# Altium schematic symbol library LSM303DLHC.SchLib: 1 symbol
Pins are listed as number, name and electrical type; pins without a type are passive.

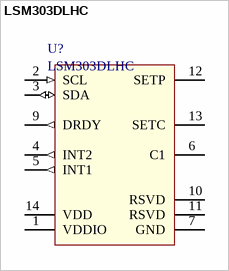
[diagram p0: symbol LSM303DLHC]

## LSM303DLHC
designator U?
Ultra compact high performance e-compass: 3D accelerometer and 3D magnetometer module; value: LSM303DLHC
pins: 1 VDDIO (power), 2 SCL (in), 3 SDA (io), 4 INT2 (out), 5 INT1 (out), 6 C1, 7 GND (power), 9 DRDY (out), 10 RSVD, 11 RSVD, 12 SETP, 13 SETC, 14 VDD (power)